# EAGLE library part ACS712 (library ic-power)
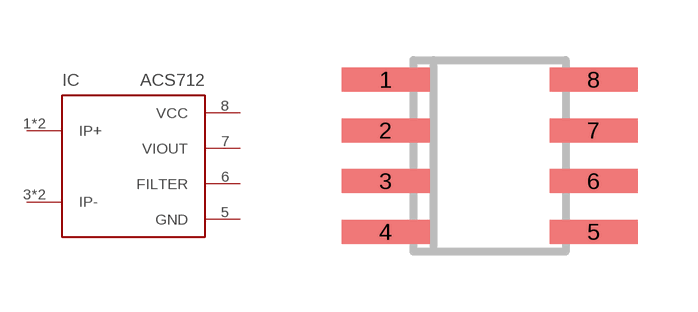
[diagram p12: symbol with the pads of SO-08; footprint SO-08]

Designator prefix IC

## ACS712  [SO-08]
1  IP+  pas
2  IP+  pas
3  IP-  pas
4  IP-  pas
5  GND  pas
6  FILTER  pas
7  VIOUT  pas
8  VCC  pas

## Footprint SO-08 (pad centres in mm)
Small Outline Narrow Plastic Gull Wing 150-mil body, package type SN
smd 2.2 x 0.6: 1 -2.6,1.905; 2 -2.6,0.635; 3 -2.6,-0.635; 4 -2.6,-1.905; 5 2.6,-1.905; 6 2.6,-0.635; 7 2.6,0.635; 8 2.6,1.905